# EAGLE library part NC7WZ07 (library fairchild-semiconductor)
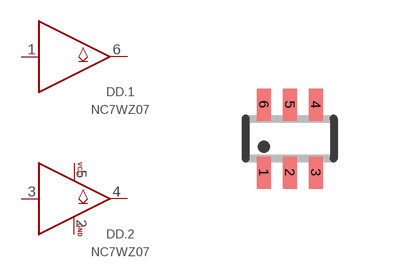
[diagram p4: symbol with the pads of SC70-6L; footprint SC70-6L]

Designator prefix DD; gates .1=BUFFER_OPENDRAIN .2=BUFFER_OPENDRAIN .PWR=LOGIC_PWR

## NC7WZ07P6X  [SC70-6L]
1  .1:IN  in
2  .PWR:GND
3  .2:IN  in
4  .2:OUT  out
5  .PWR:VCC  pwr
6  .1:OUT  out

## Footprint SC70-6L (pad centres in mm)
SC-70 Package
smd 0.35 x 0.8: 1 -0.65,-0.85; 2 0,-0.85; 3 0.65,-0.85; 4 0.65,0.85; 5 0,0.85; 6 -0.65,0.85